# EAGLE library part 146134-08 (library con-tyco-mod-II)
HEADER
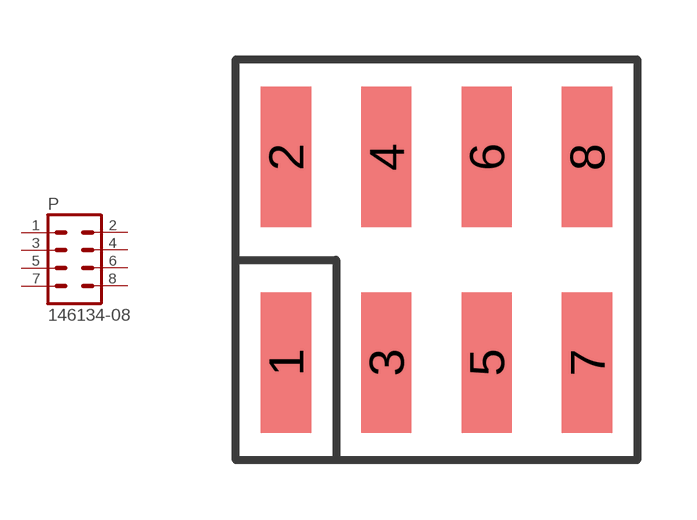
[diagram p1: symbol with the pads of 146134-08; footprint 146134-08]

Designator prefix P

## 146134-08  [146134-08]
1  1  pas
2  2  pas
3  3  pas
4  4  pas
5  5  pas
6  6  pas
7  7  pas
8  8  pas

## Footprint 146134-08 (pad centres in mm)
HEADER
smd 1.27 x 3.556: 1 -3.81,-2.603; 2 -3.81,2.603; 3 -1.27,-2.603; 4 -1.27,2.603; 5 1.27,-2.603; 6 1.27,2.603; 7 3.81,-2.603; 8 3.81,2.603